# EAGLE library part ATTINY85 (library evan)
Atmel 14-pin 2/4/8kB flash uC
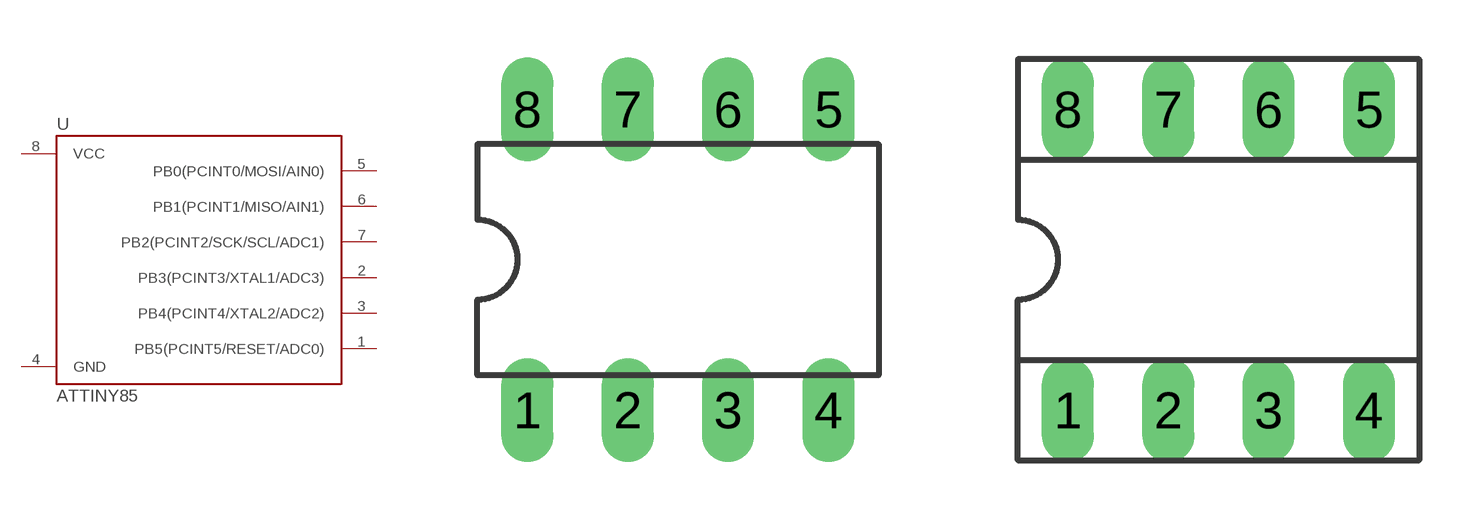
[diagram p9: symbol with the pads of DIL08; footprints DIL08, SOCKET-08]

Designator prefix -

## ATTINY85PACKAGE  [DIL08]
1  PB5(PCINT5/RESET/ADC0)
2  PB3(PCINT3/XTAL1/ADC3)
3  PB4(PCINT4/XTAL2/ADC2)
4  GND
5  PB0(PCINT0/MOSI/AIN0)
6  PB1(PCINT1/MISO/AIN1)
7  PB2(PCINT2/SCK/SCL/ADC1)
8  VCC

## ATTINY85SOCKET  [SOCKET-08]
Pads as for DIL08

## Footprint DIL08 (pad centres in mm)
Dual In Line Package
drill 0.813 long: 1 -3.81,-3.81; 2 -1.27,-3.81; 3 1.27,-3.81; 4 3.81,-3.81; 5 3.81,3.81; 6 1.27,3.81; 7 -1.27,3.81; 8 -3.81,3.81

## Footprint SOCKET-08 (pad centres in mm)
Dual In Line Socket
drill 0.813 long: 1 -3.81,-3.81; 2 -1.27,-3.81; 3 1.27,-3.81; 4 3.81,-3.81; 5 3.81,3.81; 6 1.27,3.81; 7 -1.27,3.81; 8 -3.81,3.81